# Altium footprint library PS1240P02BT.PcbLib: 2 footprints
Each footprint in its own frame and in the unit in brackets; x right, y up, seen from the top. Pads: shape width x height; smd on the part's side, far side on the other; paste and mask are expansions set on the pad; w line width, h text height; cw(c..) or ccw(c..) is an arc to the next point about the centre after c.
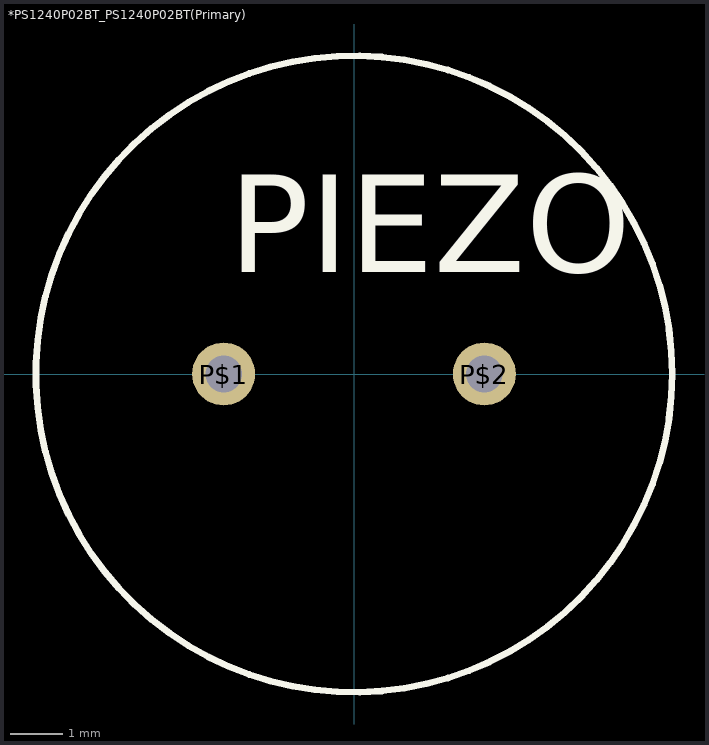
[diagram p0: the footprints below, top view; thin cyan lines are the x and y axes]

## *PS1240P02BT_PS1240P02BT(Primary) [mm]
pads (2):
  round 1.208 hole 0.7: P$1(-2.5,0) P$2(2.5,0)
Top Overlay:
  circle w0.127: c0,0 r6.101
  text "PIEZO" at -2.401,1.951 h1.88

## PCBComponent_1 [mm]